# EAGLE library part RS485_TTL_MODULE (library kxn_Standard_module_ForTutorial)
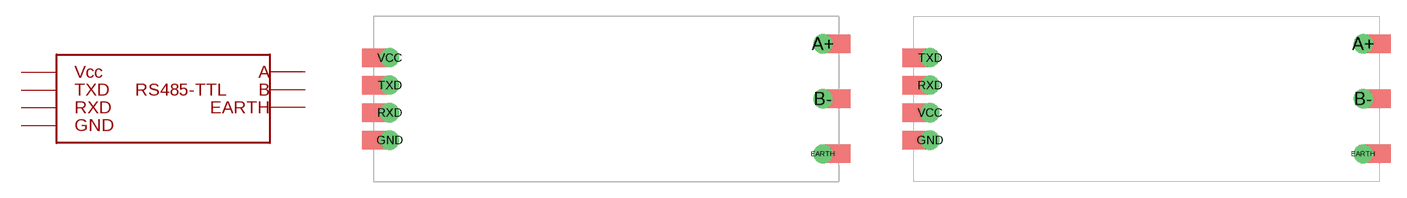
[diagram p2: symbol with the pads of MODULE_RS485_TTL_V2; footprints MODULE_RS485_TTL_V2, MODULE_RS482_TTL_MKL_PAD]

Designator prefix MO_

## RS485_TTL_MODULE_V2_FULL  [MODULE_RS485_TTL_V2]
A+  A
B-  B
EARTH  EARTH
GND  GND  pwr
RXD  RXD  out
TXD  TXD  in
VCC  VCC  pwr

## RS485_TTL_MODULE_MKL_PAD (H: 15.3; H2: 7.65; W: 43; W2: 21.5)  [MODULE_RS482_TTL_MKL_PAD]
Pads as for MODULE_RS485_TTL_V2

## RS485_TTL_MODULE_MKL_MODULE  [MODULE_RS485_TTL_MKL]
A+  A
A+2  A
B-  B
B-2  B
EARTH  EARTH
EARTH2  EARTH
GND  GND  pwr
GND2  GND  pwr
RXD  RXD  out
RXD2  RXD  out
TXD  TXD  in
TXD2  TXD  in
VCC  VCC  pwr
VCC2  VCC  pwr

## RS485_TTL_MODULE_MKL_MODULE_V2  [MODULE_RS485_TTL_MKL_V2]
Pads as for MODULE_RS485_TTL_MKL

## RS485_TTL_MODULE_MKL_PAD_V2  [MODULE_RS485_TTL_MKL_PAD_V2]
Pads as for MODULE_RS485_TTL_V2

## Footprint MODULE_RS485_TTL_V2 (pad centres in mm)
drill 0.9 pad 1.778: A+ 20,5.08; B- 20,0; EARTH 20,-5.08; GND -20,-3.81; RXD -20,-1.27; TXD -20,1.27; VCC -20,3.81

## Footprint MODULE_RS482_TTL_MKL_PAD (pad centres in mm)
21.5x7.65
drill 0.9 pad 1.778: A+ 20,5.08; B- 20,0; EARTH 20,-5.08; GND -20,-3.81; RXD -20,1.27; TXD -20,3.81; VCC -20,-1.27

## Footprint MODULE_RS485_TTL_MKL (pad centres in mm)
drill 0.9 pad 1.778: A+ 20,5.08; A+2 21.5,5.08; B- 20,0; B-2 21.5,0; EARTH 20,-5.08; EARTH2 21.5,-5.08; GND -20,-3.81; GND2 -21.5,-3.81; RXD -20,1.27; RXD2 -21.5,1.27; TXD -20,3.81; TXD2 -21.5,3.81; VCC -20,-1.27; VCC2 -21.5,-1.27

## Footprint MODULE_RS485_TTL_MKL_V2 (pad centres in mm)
drill 0.9 pad 1.778: A+ 20,-5.08; B- 20,5.08; EARTH 20,0; GND -20,-3.81; RXD -20,1.27; TXD -20,3.81; VCC -20,-1.27
drill 1.5 pad 2.184: A+2 21.5,-5.08; B-2 21.5,5.08; EARTH2 21.5,0
drill 1.3 pad 2: GND2 -21.5,-3.81; RXD2 -21.5,1.27; TXD2 -21.5,3.81; VCC2 -21.5,-1.27

## Footprint MODULE_RS485_TTL_MKL_PAD_V2 (pad centres in mm)
drill 0.9 pad 1.778: A+ 20,-5.08; B- 20,5.08; EARTH 20,0; GND -20,-3.81; RXD -20,1.27; TXD -20,3.81; VCC -20,-1.27